# EAGLE library part ADAFRUIT_SOFTPOWER (library christy)
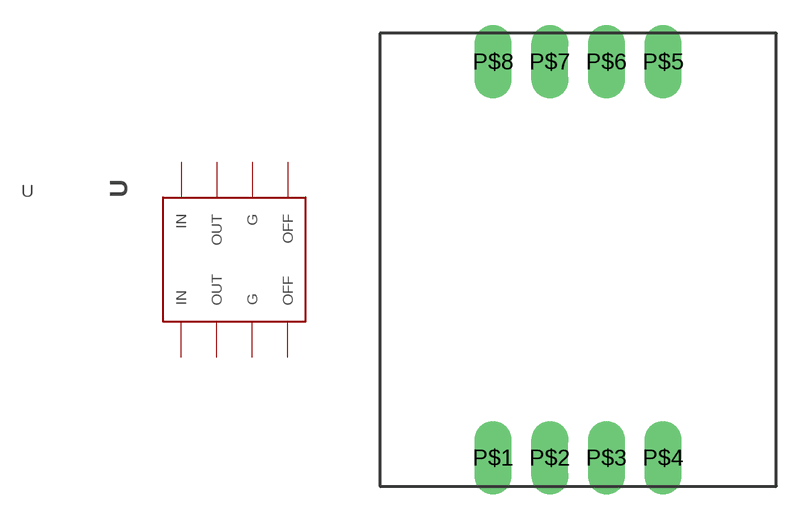
[diagram p4: symbol with the pads of ADAFRUIT_SOFTPOWER; footprint ADAFRUIT_SOFTPOWER]

Designator prefix -

## ADAFRUIT_SOFTPOWER  [ADAFRUIT_SOFTPOWER]
P$1  OFF
P$2  G
P$3  OUT
P$4  IN
P$5  IN
P$6  OUT
P$7  G
P$8  OFF

## Footprint ADAFRUIT_SOFTPOWER (pad centres in mm)
drill 1.016 pad 1.651 long: P$1 -3.81,-8.89; P$2 -1.27,-8.89; P$3 1.27,-8.89; P$4 3.81,-8.89; P$5 3.81,8.89; P$6 1.27,8.89; P$7 -1.27,8.89; P$8 -3.81,8.89